# Altium schematic symbol library Project.SCHLIB: 52 symbols
Pins are listed as number, name and electrical type; pins without a type are passive.

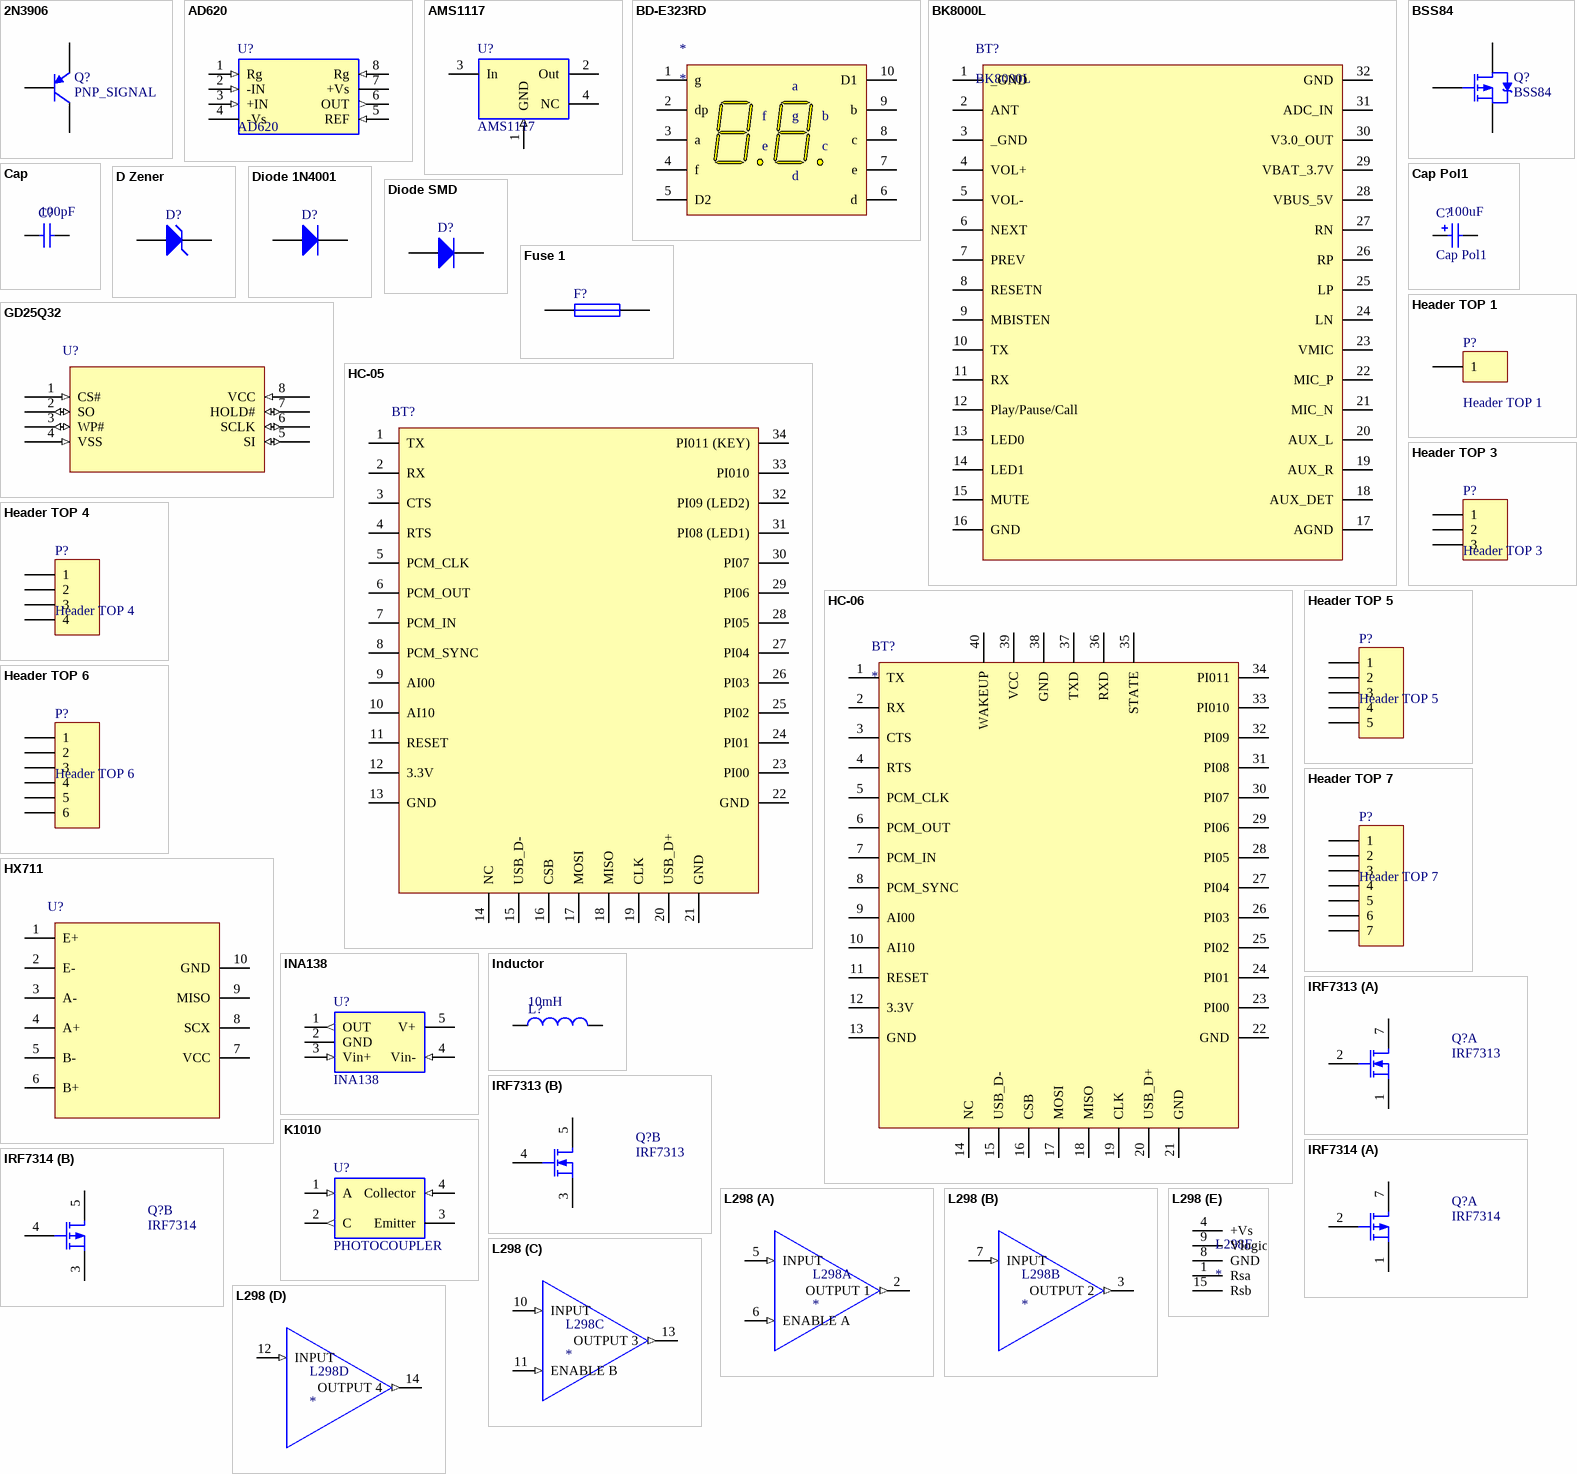
[diagram p0: symbols 2N3906 to L298]

## 2N3906
designator Q?, comment PNP_SIGNAL
Published: 8-Jun-2000; LatestRevisionDate: 15-Jan-2003; LatestRevisionNote: PCB Footprint 'BCY-W3/D4.7' replaced; DatasheetVersion: 1997; PackageVersion: Sep-1998; PackageReference: TO-92A; Publisher: Altium Limited; PackageDescription: TO, Flat Index; 3 In-Line, Axial Leads; Body Dia. 4.5mm; Leads 0.51 x 0.48 mm (max); ComponentLink1Description: Manufacturer Link; ComponentLink1URL: http://www.fairchildsemi.com/; ComponentLink2Description: Datasheet; ComponentLink2URL: http://www.fairchildsemi.com/ds/2N%2F2N3906.pdf
pins: 1 E, 2 B, 3 C

## AD620
designator U?
Instrumental amplifier; Published: 24-Mar-1999; LatestRevisionDate: 17-Jul-2002; LatestRevisionNote: Re-released for DXP Platform.; PackageReference: DIP-6; Publisher: Altium Limited; Code_JEDEC: MO-001-AM
footprint SO8_M (SOIC, 8-Leads, Body 4.9x3.9mm, Pitch 1.27mm, IPC Low Density)
footprint DIP-16-KEY (DIP; 16 Leads; Row Spacing 7.62 mm; Pitch 2.54 mm)
pins: 1 Rg (in), 2 -IN (in), 3 +IN (in), 4 -Vs (power), 5 REF (in), 6 OUT (out), 7 +Vs (power), 8 Rg (in)

## AMS1117
designator U?
VOLTAGE REGULATOR; Published: 24-Mar-1999; LatestRevisionDate: 17-Jul-2002; LatestRevisionNote: Re-released for DXP Platform.; PackageReference: DIP-6; Publisher: Altium Limited; Code_JEDEC: MO-001-AM
footprint SOT223_M (SOT223, 4-Leads, Body 6.5x3.5mm, Pitch 2.3mm, Lead Span 7mm, IPC Low Density)
pins: 1 GND (in), 2 Out (power), 3 In (power), 4 NC (power)

## BD-E323RD
designator *
footprint DD-04 (светодиодный цифровой индикатор)
pins: 1 g "Cathode", 2 dp "Cathode", 3 a "Cathode", 4 f "Cathode", 5 D2 "Anode", 6 d "Cathode", 7 e "Cathode", 8 c "Cathode", 9 b "Cathode", 10 D1 "Anode"

## BK8000L
designator BT?
footprint BK8000L (Bluetooth module)
pins: 1 _GND "Cathode", 2 ANT, 3 _GND "Cathode", 4 VOL+, 5 VOL- "Anode", 6 NEXT "Cathode", 7 PREV "Cathode", 8 RESETN "Cathode", 9 MBISTEN "Anode", 10 TX "Anode", 11 RX "Cathode", 12 Play/Pause/Call "Anode", 13 LED0 "Anode", 14 LED1 "Cathode", 15 MUTE "Cathode", 16 GND "Cathode", 17 AGND "Anode", 18 AUX_DET "Anode", 19 AUX_R "Cathode", 20 AUX_L "Anode", 21 MIC_N "Anode", 22 MIC_P "Anode", 23 VMIC "Anode", 24 LN "Anode", 25 LP "Anode", 26 RP "Anode", 27 RN "Anode", 28 VBUS_5V "Anode", 29 VBAT_3.7V "Anode", 30 V3.0_OUT "Anode", 31 ADC_IN "Anode", 32 GND "Anode"

## BSS84
designator Q?
P-Channel Power MOSFET; Note: Pin 4 not drawn and electrically connected to Pin 2.; Published: 8-Jun-2000; LatestRevisionDate: 17-Jul-2002; LatestRevisionNote: Re-released for DXP Platform.; DatasheetVersion: PD-9.390D; PackageVersion: Feb-1997; PackageReference: TO-220AB; Publisher: Altium Limited; PackageDescription: TO, Thru-Hole, Vertical, Heatsink Mounted; 3 In-Line Leads; Pitch 2.54 mm; ComponentLink1Description: Manufacturer Link; ComponentLink1URL: http://www.irf.com/
footprint SOT23_M (SOT23, 3-Leads, Body 2.9x1.3mm, Pitch 0.95mm, Lead Span 2.3mm - Reverse Pinning, IPC Low Density)
pins: 1 G, 2 S, 3 D

## Cap
designator C?  value 100pF
Capacitor; Published: 8-Jun-2000; LatestRevisionDate: 17-Jul-2002; LatestRevisionNote: Re-released for DXP Platform.; PackageReference: RAD-0.3; Publisher: Altium Limited; PackageDescription: Radial Cap, Thru-Hole; 2 Leads; 0.3 in Pin Spacing
footprint RAD-0.3 (Radial Cap, Thru-Hole; 2 Leads; 0.3 in Pin Spacing)
simulation model CAP (Capacitor)
signal-integrity model Cap
footprint 6-0805_M (Chip Resistor, Body 2.0x1.2mm, IPC Low Density)
pins: 1, 2

## Cap Pol1
designator C?  value 100uF
Polarized Capacitor (Radial); Published: 8-Jun-2000; LatestRevisionDate: 17-Jul-2002; LatestRevisionNote: Re-released for DXP Platform.; PackageReference: RB7.6-15; Publisher: Altium Limited; PackageDescription: Polarized Capacitor (Radial); 2 Leads
footprint RAD-0.3 (Radial Cap, Thru-Hole; 2 Leads; 0.3 in Pin Spacing)
footprint CAP_POL (Capacitor)
footprint CAP_POL_TOP (Capacitor)
pins: 1, 2
1 alternate drawing of the same symbol

## D Zener
designator D?
Zener Diode; Published: 8-Jun-2000; LatestRevisionDate: 17-Jul-2002; LatestRevisionNote: Re-released for DXP Platform.; PackageReference: DIODE-0.7; Publisher: Altium Limited; PackageDescription: Diode, Thru-Hole; 2 Leads; 0.7 in Pin Spacing
footprint 12Z-2010 (Chip Resistor, Body 5.0x2.5mm, IPC High Density)
pins: 1 K, 2 A

## Diode 1N4001
designator D?
1 Amp General Purpose Rectifier; Published: 8-Jun-2000; LatestRevisionDate: 17-Jul-2002; LatestRevisionNote: Re-released for DXP Platform.; DatasheetVersion: 1998; PackageVersion: Aug-1999; PackageReference: DO-41; Publisher: Altium Limited; PackageDescription: Diode, Axial; Body 5.2 x 2.7 mm (LxDia. max), Lead Dia. 0.86 mm (max); Code_JEDEC: DO-204-AL; ComponentLink1Description: Manufacturer Link; ComponentLink1URL: http://www.fairchildsemi.com/; ComponentLink2Description: Datasheet; ComponentLink2URL: http://www.fairchildsemi.com/ds/1N%2F1N4001.pdf
footprint DO-41 (Diode, Axial; Body 5.2 x 2.7 mm (LxDia. max), Lead Dia. 0.86 mm (max))
simulation model 1N4001 (DIODE)
signal-integrity model 1N4001
footprint DO-41 (Diode, Axial; Body 5.2 x 2.7 mm (LxDia. max), Lead Dia. 0.86 mm (max))
pins: 1 A, 2 K

## Diode SMD
designator D?  (value not drawn)
1 Amp General Purpose Rectifier; Published: 8-Jun-2000; LatestRevisionDate: 17-Jul-2002; LatestRevisionNote: Re-released for DXP Platform.; DatasheetVersion: 1998; PackageVersion: Aug-1999; PackageReference: DO-41; Publisher: Altium Limited; PackageDescription: Diode, Axial; Body 5.2 x 2.7 mm (LxDia. max), Lead Dia. 0.86 mm (max); Code_JEDEC: DO-204-AL; ComponentLink1Description: Manufacturer Link; ComponentLink1URL: http://www.fairchildsemi.com/; ComponentLink2Description: Datasheet; ComponentLink2URL: http://www.fairchildsemi.com/ds/1N%2F1N4001.pdf
footprint 12Z-2010 (Chip Resistor, Body 5.0x2.5mm, IPC High Density)
pins: 1 K, 2 A

## Fuse 1
designator F?
Fuse; Published: 8-Jun-2000; LatestRevisionDate: 17-Jul-2002; LatestRevisionNote: Re-released for DXP Platform.; PackageReference: PIN-W2/E2.8; Publisher: Altium Limited; PackageDescription: Thru-Hole; 2 Leads
footprint PIN-W2/E2.8 (Thru-Hole; 2 Leads)
footprint FUSE (Fuse 12V)
pins: 1, 2

## GD25Q32
designator U?
STM32 ARM-based 32-bit MCU with 16 Kbytes Flash, 20-pin; Published: 30-May-2008; DatasheetVersion: rev6, Mar-2008; PackageVersion: Mar-2008; PackageReference: LQFP48; Publisher: Altium Limited; PackageDescription: 48-Pin Low-Profile Quad Flat Pack, 7 x 7 mm Body, 0.5 mm Pitch (LQFP48); ComponentLink1Description: Manufacturer Link; ComponentLink1URL: www.st.com/stm32; ComponentLink2Description: Datasheet; ComponentLink2URL: http://www.st.com/stonline/products/literature/ds/13586.pdf
footprint SO8_M (SOIC, 8-Leads, Body 4.9x3.9mm, Pitch 1.27mm, IPC Low Density)
pins: 1 CS# (in), 2 SO (io), 3 WP# (io), 4 VSS (in), 5 SI (io), 6 SCLK (io), 7 HOLD# (io), 8 VCC (in)

## HC-05
designator BT?  (value not drawn)
footprint HC-05 (SOT223, 4-Leads, Body Bluetooth module)
pins: 1 TX "Cathode", 2 RX, 3 CTS "Cathode", 4 RTS, 5 PCM_CLK "Anode", 6 PCM_OUT "Cathode", 7 PCM_IN "Cathode", 8 PCM_SYNC "Cathode", 9 AI00 "Anode", 10 AI10 "Anode", 11 RESET "Cathode", 12 3.3V "Anode", 13 GND "Anode", 14 NC "Cathode", 15 USB_D- "Cathode", 16 CSB "Cathode", 17 MOSI "Anode", 18 MISO "Anode", 19 CLK "Cathode", 20 USB_D+ "Anode", 21 GND "Anode", 22 GND "Anode", 23 PI00 "Anode", 24 PI01 "Anode", 25 PI02 "Anode", 26 PI03 "Anode", 27 PI04 "Anode", 28 PI05 "Anode", 29 PI06 "Anode", 30 PI07 "Anode", 31 PI08 (LED1) "Anode", 32 PI09 (LED2) "Anode", 33 PI010 "Anode", 34 PI011 (KEY) "Anode"

## HC-06
designator BT?
footprint HDR1X4; pin to pad 1>none 2>none 3>none 4>none 5>none 6>none 7>none 8>none 9>none 10>none 11>none 12>none 13>none 14>none 15>none 16>none 17>none 18>none 19>none 20>none 21>none 22>none 23>none 24>none 25>none 26>none 27>none 28>none 29>none 30>none 31>none 32>none 33>none 34>none 35>none 36>1 37>2 38>3 39>4 40>none
pins: 1 TX "Cathode", 2 RX, 3 CTS "Cathode", 4 RTS, 5 PCM_CLK "Anode", 6 PCM_OUT "Cathode", 7 PCM_IN "Cathode", 8 PCM_SYNC "Cathode", 9 AI00 "Anode", 10 AI10 "Anode", 11 RESET "Cathode", 12 3.3V "Anode", 13 GND "Anode", 14 NC "Cathode", 15 USB_D- "Cathode", 16 CSB "Cathode", 17 MOSI "Anode", 18 MISO "Anode", 19 CLK "Cathode", 20 USB_D+ "Anode", 21 GND "Anode", 22 GND "Anode", 23 PI00 "Anode", 24 PI01 "Anode", 25 PI02 "Anode", 26 PI03 "Anode", 27 PI04 "Anode", 28 PI05 "Anode", 29 PI06 "Anode", 30 PI07 "Anode", 31 PI08 "Anode", 32 PI09 "Anode", 33 PI010 "Anode", 34 PI011 "Anode", 35 STATE "Cathode", 36 RXD "Cathode", 37 TXD "Anode", 38 GND "Anode", 39 VCC "Cathode", 40 WAKEUP "Anode"

## Header TOP 1
designator P?
Header, 1Pin; LatestRevisionDate: 17-Jul-2002; LatestRevisionNote: Re-released for DXP Platform.; Publisher: Altium Limited
signal-integrity model Connector
footprint PIN1 (Connector; Plug)
footprint PIN1-SMALL (Connector; Plug)
pins: 1

## Header TOP 3
designator P?
Header, 1Pin; LatestRevisionDate: 17-Jul-2002; LatestRevisionNote: Re-released for DXP Platform.; Publisher: Altium Limited
signal-integrity model Connector
footprint PIN_TOP_SMALL_3 (Connector; Plug)
pins: 1, 2, 3

## Header TOP 4
designator P?
Header, 1Pin; LatestRevisionDate: 17-Jul-2002; LatestRevisionNote: Re-released for DXP Platform.; Publisher: Altium Limited
signal-integrity model Connector
footprint PIN_TOP_SMALL_4 (Connector; Plug)
pins: 1, 2, 3, 4

## Header TOP 5
designator P?
Header, 1Pin; LatestRevisionDate: 17-Jul-2002; LatestRevisionNote: Re-released for DXP Platform.; Publisher: Altium Limited
signal-integrity model Connector
footprint PIN_TOP_SMALL_5 (Connector; Plug)
pins: 1, 2, 3, 4, 5

## Header TOP 6
designator P?
Header, 1Pin; LatestRevisionDate: 17-Jul-2002; LatestRevisionNote: Re-released for DXP Platform.; Publisher: Altium Limited
signal-integrity model Connector
footprint PIN_TOP_SMALL_6 (Connector; Plug)
pins: 1, 2, 3, 4, 5, 6

## Header TOP 7
designator P?
Header, 1Pin; LatestRevisionDate: 17-Jul-2002; LatestRevisionNote: Re-released for DXP Platform.; Publisher: Altium Limited
signal-integrity model Connector
pins: 1, 2, 3, 4, 5, 6, 7

## HX711
designator U?  (value not drawn)
footprint HX711 (Pressure controller)
pins: 1 E+, 2 E-, 3 A- "Cathode", 4 A+, 5 B-, 6 B+, 7 VCC, 8 SCX, 9 MISO, 10 GND (power)

## INA138
designator U?
INA 138 Current monitor; Published: 24-Mar-1999; LatestRevisionDate: 17-Jul-2002; LatestRevisionNote: Re-released for DXP Platform.; PackageReference: DIP-6; Publisher: Altium Limited; Code_JEDEC: MO-001-AM
footprint SOT23-5_M (SOT23, 6-Leads, Body 2.9x1.6mm, Pitch 0.95mm, Lead Span 2.7mm, IPC Low Density)
pins: 1 OUT (out), 2 GND (power), 3 Vin+ (in), 4 Vin- (in), 5 V+ (power)

## Inductor
designator L?  value 10mH
Inductor; Code_IEC: 1005; Published: 8-Jun-2000; LatestRevisionDate: 29-May-2009; LatestRevisionNote: IPC-7351 Footprint Added.; PackageReference: 0402-A; Publisher: Altium Limited; PackageDescription: Chip Inductor; Code_JEITA: 0402
footprint INDC4532 (Chip Inductor, Body 4.5x3.2mm, IPC High Density)
footprint Inductor220
pins: 1, 2

## IRF7313
designator Q?
Published: 8-Jun-2000; LatestRevisionDate: 17-Jul-2002; LatestRevisionNote: Re-released for DXP Platform.; DatasheetVersion: REV. B; PackageVersion: 1990; PackageReference: H-08A; Publisher: Altium Limited; PackageDescription: Can; 8 Leads; Pin Circle Dia. 5.08 mm; Lead Dia. 0.53 mm (max); ComponentLink1Description: Manufacturer Link; ComponentLink1URL: http://www.analog.com/
footprint SO8_M (SOIC, 8-Leads, Body 4.9x3.9mm, Pitch 1.27mm, IPC Low Density)
part A pins: 1 S1, 2 G1, 7 D1, 8 D1 hidden to 8
part B pins: 3 S2, 4 G2, 5 D2, 6 D2 hidden to 6

## IRF7314
designator Q?
Published: 8-Jun-2000; LatestRevisionDate: 17-Jul-2002; LatestRevisionNote: Re-released for DXP Platform.; DatasheetVersion: REV. B; PackageVersion: 1990; PackageReference: H-08A; Publisher: Altium Limited; PackageDescription: Can; 8 Leads; Pin Circle Dia. 5.08 mm; Lead Dia. 0.53 mm (max); ComponentLink1Description: Manufacturer Link; ComponentLink1URL: http://www.analog.com/
footprint SO8_M (SOIC, 8-Leads, Body 4.9x3.9mm, Pitch 1.27mm, IPC Low Density)
part A pins: 1 S1, 2 G1, 7 D1, 8 D1 hidden to 8
part B pins: 3 S2, 4 G2, 5 D2, 6 D2 hidden to 6

## K1010
designator U?, comment PHOTOCOUPLER
Published: 24-Mar-1999; LatestRevisionDate: 17-Jul-2002; LatestRevisionNote: Re-released for DXP Platform.; PackageReference: DIP-6; Publisher: Altium Limited; Code_JEDEC: MO-001-AM
footprint SOT23-5_M (SOT23, 6-Leads, Body 2.9x1.6mm, Pitch 0.95mm, Lead Span 2.7mm, IPC Low Density)
pins: 1 A (in), 2 C (out), 3 Emitter (power), 4 Collector (in)

## L298
designator L298
part A pins: 2 OUTPUT 1 (out), 5 INPUT (in), 6 ENABLE A (in)
part B pins: 3 OUTPUT 2 (out), 7 INPUT (in)
part C pins: 10 INPUT (in), 11 ENABLE B (in), 13 OUTPUT 3 (out)
part D pins: 12 INPUT (in), 14 OUTPUT 4 (out)
part E pins: 1 Rsa (power), 4 +Vs (power), 8 GND (power), 9 Vlogic (power), 15 Rsb (power)

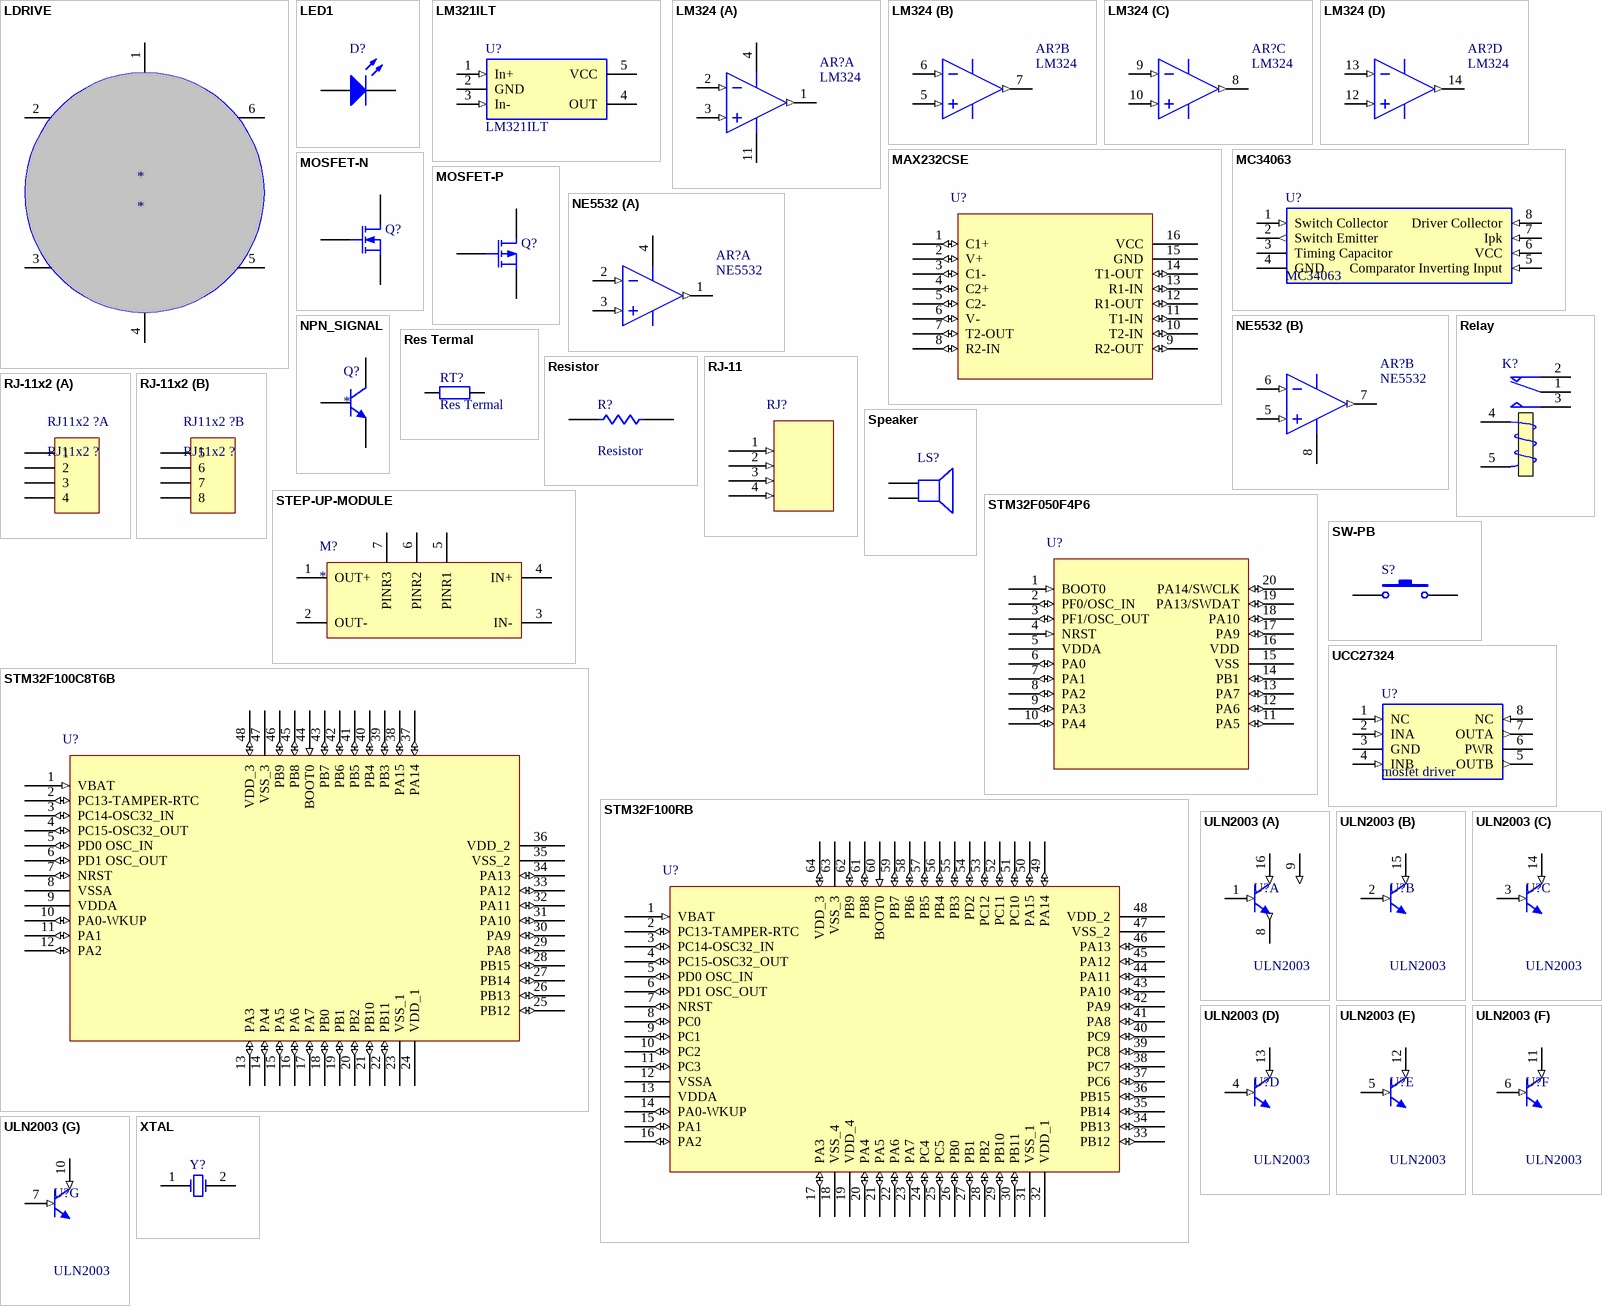
[diagram p1: symbols LDRIVE to XTAL]

## LDRIVE
designator *
footprint DD-04 (светодиодный цифровой индикатор)
pins: 1 "Cathode", 2 "Cathode", 3 "Cathode", 4 "Cathode", 5 "Anode", 6 "Cathode"

## LED1
designator D?
Typical RED GaAs LED; Published: 8-Jun-2000; LatestRevisionDate: 08-Jul-2005; LatestRevisionNote: Mech Layer 1 removed.; PackageReference: LED-1; Publisher: Altium Limited; PackageDescription: LED; 2 Leads
footprint LED-1 (LED; 2 Leads)
simulation model LED1 (Diode)
footprint LED-1 (LED; 2 Leads)
pins: 1 A, 2 K

## LM321ILT
designator U?
Op amp; Published: 24-Mar-1999; LatestRevisionDate: 17-Jul-2002; LatestRevisionNote: Re-released for DXP Platform.; PackageReference: DIP-6; Publisher: Altium Limited; Code_JEDEC: MO-001-AM
footprint SOT23-5_M (SOT23, 6-Leads, Body 2.9x1.6mm, Pitch 0.95mm, Lead Span 2.7mm, IPC Low Density)
pins: 1 In+ (in), 2 GND (power), 3 In- (in), 4 OUT (power), 5 VCC (power)

## LM324
designator AR?
FET Operational Amplifier; Published: 8-Jun-2000; LatestRevisionDate: 17-Jul-2002; LatestRevisionNote: Re-released for DXP Platform.; DatasheetVersion: REV. B; PackageVersion: 1990; PackageReference: H-08A; Publisher: Altium Limited; PackageDescription: Can; 8 Leads; Pin Circle Dia. 5.08 mm; Lead Dia. 0.53 mm (max); ComponentLink1Description: Manufacturer Link; ComponentLink1URL: http://www.analog.com/
footprint SOP14 (Small Outline; 14 Leads  Body Width 4.4 mm; Pitch 1.27 mm)
part A pins: 1 OUT (out), 2 IN- (in), 3 IN+ (in), 4 V+ (power), 11 V- (power)
part B pins: 5 IN+ (in), 6 IN- (in), 7 OUT (out)
part C pins: 8 OUT (out), 9 IN- (in), 10 IN+ (in)
part D pins: 12 IN+ (in), 13 IN- (in), 14 OUT (out)

## MAX232CSE
designator U?
STM32 ARM-based 32-bit MCU with 16 Kbytes Flash, 20-pin; Published: 30-May-2008; DatasheetVersion: rev6, Mar-2008; PackageVersion: Mar-2008; PackageReference: LQFP48; Publisher: Altium Limited; PackageDescription: 48-Pin Low-Profile Quad Flat Pack, 7 x 7 mm Body, 0.5 mm Pitch (LQFP48); ComponentLink1Description: Manufacturer Link; ComponentLink1URL: www.st.com/stm32; ComponentLink2Description: Datasheet; ComponentLink2URL: http://www.st.com/stonline/products/literature/ds/13586.pdf
footprint TSOP20 (STM32 маханький такой)
footprint NSO16_N (16-Pin Small Outline Integrated Circuit 1.27 mm Pitch, IPC Medium Density)
footprint TSSOP16 (Shrink Small Outline; 16 Leads; Body Width 4.4 mm; Pitch 0.65 mm)
pins: 1 C1+ (io), 2 V+ (io), 3 C1- (io), 4 C2+ (io), 5 C2- (io), 6 V- (io), 7 T2-OUT (io), 8 R2-IN (io), 9 R2-OUT (io), 10 T2-IN (io), 11 T1-IN (io), 12 R1-OUT (io), 13 R1-IN (io), 14 T1-OUT (io), 15 GND (power), 16 VCC (power)

## MC34063
designator U?
Step Down converter; Published: 24-Mar-1999; LatestRevisionDate: 17-Jul-2002; LatestRevisionNote: Re-released for DXP Platform.; PackageReference: DIP-6; Publisher: Altium Limited; Code_JEDEC: MO-001-AM
pins: 1 Switch Collector (in), 2 Switch Emitter (out), 3 Timing Capacitor, 4 GND (power), 5 Comparator Inverting Input (in), 6 VCC (in), 7 Ipk (in), 8 Driver Collector (in)

## MOSFET-N
designator Q?
N-Channel MOSFET; Published: 8-Jun-2000; LatestRevisionDate: 17-Jul-2002; LatestRevisionNote: Re-released for DXP Platform.; PackageVersion: 1995/1996; PackageReference: E3; Publisher: Altium Limited; PackageDescription: TO, Flat Index; 3 In-Line, Axial Leads; Body Dia. 4.6mm; Lead Dia. 0.5 mm (max)
footprint E3 (TO, Flat Index; 3 In-Line, Axial Leads; Body Dia. 4.6mm; Lead Dia. 0.5 mm (max))
simulation model NMOS (MOSFET-N)
pins: 1 D, 2 G, 3 S

## MOSFET-P
designator Q?
P-Channel MOSFET; Published: 8-Jun-2000; LatestRevisionDate: 17-Jul-2002; LatestRevisionNote: Re-released for DXP Platform.; PackageVersion: 1995/1996; PackageReference: E3; Publisher: Altium Limited; PackageDescription: TO, Flat Index; 3 In-Line, Axial Leads; Body Dia. 4.6mm; Lead Dia. 0.5 mm (max)
footprint E3 (TO, Flat Index; 3 In-Line, Axial Leads; Body Dia. 4.6mm; Lead Dia. 0.5 mm (max))
simulation model PMOS (MOSFET-P)
pins: 1 D, 2 G, 3 S

## NE5532
designator AR?
FET Operational Amplifier; Published: 8-Jun-2000; LatestRevisionDate: 17-Jul-2002; LatestRevisionNote: Re-released for DXP Platform.; DatasheetVersion: REV. B; PackageVersion: 1990; PackageReference: H-08A; Publisher: Altium Limited; PackageDescription: Can; 8 Leads; Pin Circle Dia. 5.08 mm; Lead Dia. 0.53 mm (max); ComponentLink1Description: Manufacturer Link; ComponentLink1URL: http://www.analog.com/
footprint SO8_M (SOIC, 8-Leads, Body 4.9x3.9mm, Pitch 1.27mm, IPC Low Density)
part A pins: 1 OUT (out), 2 IN- (in), 3 IN+ (in), 4 V- (power)
part B pins: 5 IN+ (in), 6 IN- (in), 7 OUT (out), 8 V+ (power)

## NPN_SIGNAL
designator Q?
Low power NPN transistor
footprint SOT23_M (SOT23, 3-Leads, Body 2.9x1.3mm, Pitch 0.95mm, Lead Span 2.3mm - Reverse Pinning, IPC Low Density)
pins: 1 B, 2 E, 3 C

## Relay
designator K?
SPDT Relay; Published: 8-Jun-2000; LatestRevisionDate: 17-Jul-2002; LatestRevisionNote: Re-released for DXP Platform.; PackageReference: MODULE5B; Publisher: Altium Limited
footprint SRD-05VDC-SL-C-Datasheet (Relay 5 pin)
pins: 1 COM, 2 NC, 3 NO, 4 T1, 5 T2

## Res Termal
designator RT?
Resistor; Value: 1K; Published: 8-Jun-2000; LatestRevisionDate: 17-Jul-2002; LatestRevisionNote: Re-released for DXP Platform.; PackageReference: AXIAL-0.4; Publisher: Altium Limited; PackageDescription: Axial Device, Thru-Hole; 2 Leads; 0.4 in Pin Spacing
footprint AXIAL-0.4 (Axial Device, Thru-Hole; 2 Leads; 0.4 in Pin Spacing)
pins: 1, 2

## Resistor
designator R?
Published: 24-Mar-1999; LatestRevisionDate: 29-May-2009; LatestRevisionNote: IPC-7351 Footprint Added.; PackageVersion: Mar-2003; PackageReference: 6-0805; Publisher: Altium Limited; PackageDescription: Chip Resistor 0805 Case Size; Code_IPC: RESC2012
footprint 6-0805_M (Chip Resistor, Body 2.0x1.2mm, IPC Low Density)
footprint R2512 (Shunt resistor)
pins: 1, 2

## RJ-11
designator RJ?
Published: 30-May-2008; DatasheetVersion: rev6, Mar-2008; PackageVersion: Mar-2008; PackageReference: LQFP48; Publisher: Altium Limited; PackageDescription: 48-Pin Low-Profile Quad Flat Pack, 7 x 7 mm Body, 0.5 mm Pitch (LQFP48); ComponentLink1Description: Manufacturer Link; ComponentLink1URL: www.st.com/stm32; ComponentLink2Description: Datasheet; ComponentLink2URL: http://www.st.com/stonline/products/literature/ds/13586.pdf
footprint RJ-11 (Radial Cap, Thru-Hole; 2 Leads; 0.1 in Pin Spacing)
pins: 1 (in), 2 (in), 3 (in), 4 (in)

## RJ-11x2
designator RJ11x2 ?, comment RJ11x2 ?
footprint RJ-11x2
part A pins: 1, 2, 3, 4
part B pins: 5, 6, 7, 8

## Speaker
designator LS?
Loudspeaker; Published: 24-Mar-1999; LatestRevisionDate: 17-Jul-2002; LatestRevisionNote: Re-released for DXP Platform.; PackageReference: PIN2; Publisher: Altium Limited
footprint Speaker (2 Leads)
pins: 1, 2

## STEP-UP-MODULE
designator M?
footprint STEP-UP-MT3608
pins: 1 OUT+, 2 OUT-, 3 IN-, 4 IN+, 5 PINR1, 6 PINR2, 7 PINR3

## STM32F050F4P6
designator U?
STM32 ARM-based 32-bit MCU with 16 Kbytes Flash, 20-pin; Published: 30-May-2008; DatasheetVersion: rev6, Mar-2008; PackageVersion: Mar-2008; PackageReference: LQFP48; Publisher: Altium Limited; PackageDescription: 48-Pin Low-Profile Quad Flat Pack, 7 x 7 mm Body, 0.5 mm Pitch (LQFP48); ComponentLink1Description: Manufacturer Link; ComponentLink1URL: www.st.com/stm32; ComponentLink2Description: Datasheet; ComponentLink2URL: http://www.st.com/stonline/products/literature/ds/13586.pdf
footprint NSO16_N (16-Pin Small Outline Integrated Circuit 1.27 mm Pitch, IPC Medium Density)
footprint TSSOP16 (Shrink Small Outline; 16 Leads; Body Width 4.4 mm; Pitch 0.65 mm)
pins: 1 BOOT0 (in), 2 PF0/OSC_IN (io), 3 PF1/OSC_OUT (io), 4 NRST (in), 5 VDDA (power), 6 PA0 (io), 7 PA1 (io), 8 PA2 (io), 9 PA3 (io), 10 PA4 (io), 11 PA5 (io), 12 PA6 (io), 13 PA7 (io), 14 PB1 (io), 15 VSS (power), 16 VDD (power), 17 PA9 (io), 18 PA10 (io), 19 PA13/SWDAT (io), 20 PA14/SWCLK (io)

## STM32F100C8T6B
designator U?
STM32 ARM-based 32-bit MCU with 32 Kbytes Flash, 48-pin LQFP, Industrial Temperature; Published: 30-May-2008; DatasheetVersion: rev6, Mar-2008; PackageVersion: Mar-2008; PackageReference: LQFP48; Publisher: Altium Limited; PackageDescription: 48-Pin Low-Profile Quad Flat Pack, 7 x 7 mm Body, 0.5 mm Pitch (LQFP48); ComponentLink1Description: Manufacturer Link; ComponentLink1URL: www.st.com/stm32; ComponentLink2Description: Datasheet; ComponentLink2URL: http://www.st.com/stonline/products/literature/ds/13586.pdf
footprint TQFP48_L (48-Pin Thin Quad Flat Pack 0.5 mm Pitch, IPC High Density)
pins: 1 VBAT (in), 2 PC13-TAMPER-RTC (io), 3 PC14-OSC32_IN (io), 4 PC15-OSC32_OUT (io), 5 PD0 OSC_IN (io), 6 PD1 OSC_OUT (io), 7 NRST (io), 8 VSSA (power), 9 VDDA (power), 10 PA0-WKUP (io), 11 PA1 (io), 12 PA2 (io), 13 PA3 (io), 14 PA4 (io), 15 PA5 (io), 16 PA6 (io), 17 PA7 (io), 18 PB0 (io), 19 PB1 (io), 20 PB2 (io), 21 PB10 (io), 22 PB11 (io), 23 VSS_1 (power), 24 VDD_1 (power), 25 PB12 (io), 26 PB13 (io), 27 PB14 (io), 28 PB15 (io), 29 PA8 (io), 30 PA9 (io), 31 PA10 (io), 32 PA11 (io), 33 PA12 (io), 34 PA13 (io), 35 VSS_2 (power), 36 VDD_2 (power), 37 PA14 (io), 38 PA15 (io), 39 PB3 (io), 40 PB4 (io), 41 PB5 (io), 42 PB6 (io), 43 PB7 (io), 44 BOOT0 (in), 45 PB8 (io), 46 PB9 (io), 47 VSS_3 (power), 48 VDD_3 (io)

## STM32F100RB
designator U?
STM32 ARM-based 32-bit MCU with 32 Kbytes Flash, 48-pin LQFP, Industrial Temperature; Published: 30-May-2008; DatasheetVersion: rev6, Mar-2008; PackageVersion: Mar-2008; PackageReference: LQFP48; Publisher: Altium Limited; PackageDescription: 48-Pin Low-Profile Quad Flat Pack, 7 x 7 mm Body, 0.5 mm Pitch (LQFP48); ComponentLink1Description: Manufacturer Link; ComponentLink1URL: www.st.com/stm32; ComponentLink2Description: Datasheet; ComponentLink2URL: http://www.st.com/stonline/products/literature/ds/13586.pdf
footprint LQFP64_L (Thin QFP, 64-Leads, Body 10x10mm, Pitch 0.5mm, IPC High Density)
pins: 1 VBAT (in), 2 PC13-TAMPER-RTC (io), 3 PC14-OSC32_IN (io), 4 PC15-OSC32_OUT (io), 5 PD0 OSC_IN (io), 6 PD1 OSC_OUT (io), 7 NRST (io), 8 PC0 (io), 9 PC1 (io), 10 PC2 (io), 11 PC3 (io), 12 VSSA (power), 13 VDDA (power), 14 PA0-WKUP (io), 15 PA1 (io), 16 PA2 (io), 17 PA3 (io), 18 VSS_4 (power), 19 VDD_4 (power), 20 PA4 (io), 21 PA5 (io), 22 PA6 (io), 23 PA7 (io), 24 PC4 (io), 25 PC5 (io), 26 PB0 (io), 27 PB1 (io), 28 PB2 (io), 29 PB10 (io), 30 PB11 (io), 31 VSS_1 (power), 32 VDD_1 (power), 33 PB12 (io), 34 PB13 (io), 35 PB14 (io), 36 PB15 (io), 37 PC6 (io), 38 PC7 (io), 39 PC8 (io), 40 PC9 (io), 41 PA8 (io), 42 PA9 (io), 43 PA10 (io), 44 PA11 (io), 45 PA12 (io), 46 PA13 (io), 47 VSS_2 (power), 48 VDD_2 (power), 49 PA14 (io), 50 PA15 (io), 51 PC10 (io), 52 PC11 (io), 53 PC12 (io), 54 PD2 (io), 55 PB3 (io), 56 PB4 (io), 57 PB5 (io), 58 PB6 (io), 59 PB7 (io), 60 BOOT0 (in), 61 PB8 (io), 62 PB9 (io), 63 VSS_3 (power), 64 VDD_3 (io)

## SW-PB
designator S?
Switch; Published: 24-Mar-1999; LatestRevisionDate: 17-Jul-2002; LatestRevisionNote: Re-released for DXP Platform.; PackageReference: SPST-2; Publisher: Altium Limited; PackageDescription: Switch; 2 Leads
footprint SPST-2 (Switch; 2 Leads)
pins: 1, 2

## UCC27324
designator U?, comment mosfet driver
Dual 4-A Peak High-Speed Low-Side Power MOSFET Driver; Published: 24-Mar-1999; LatestRevisionDate: 17-Jul-2002; LatestRevisionNote: Re-released for DXP Platform.; PackageReference: DIP-6; Publisher: Altium Limited; Code_JEDEC: MO-001-AM
footprint SO8_M (SOIC, 8-Leads, Body 4.9x3.9mm, Pitch 1.27mm, IPC Low Density)
pins: 1 NC (in), 2 INA (in), 3 GND (power), 4 INB (in), 5 OUTB (out), 6 PWR, 7 OUTA (out), 8 NC (in)

## ULN2003
designator U?
Darlington array; Published: 24-Mar-1999; LatestRevisionDate: 17-Jul-2002; LatestRevisionNote: Re-released for DXP Platform.; PackageReference: DIP-6; Publisher: Altium Limited; Code_JEDEC: MO-001-AM
footprint SOIC16_N (SOIC, 16-Leads, Body 9.9x3.9mm, Pitch 1.27mm, IPC Medium Density)
footprint DIP-16-KEY (DIP; 16 Leads; Row Spacing 7.62 mm; Pitch 2.54 mm)
part A pins: 1 B (in), 8 E (out), 9 COM (in), 16 C (in)
part B pins: 2 B (in), 15 C (in)
part C pins: 3 B (in), 14 C (in)
part D pins: 4 B (in), 13 C (in)
part E pins: 5 B (in), 12 C (in)
part F pins: 6 B (in), 11 C (in)
part G pins: 7 B (in), 10 C (in)

## XTAL
designator Y?
Crystal Oscillator; Published: 8-Jun-2000; LatestRevisionDate: 17-Jul-2002; LatestRevisionNote: Re-released for DXP Platform.; PackageReference: R38; Publisher: Altium Limited; PackageDescription: Crystal, Thru-Hole; 2 Leads; Body 3.1 x 8.2 mm (Dia.xH)
simulation model XTAL (Spice Subcircuit)
footprint RAD-0.1 (Radial Cap, Thru-Hole; 2 Leads; 0.1 in Pin Spacing)
footprint RAD-0.3 (Radial Cap, Thru-Hole; 2 Leads; 0.3 in Pin Spacing)
pins: 1 OSC1, 2 OSC2